# Altium schematic symbol library SN74LVC2G241DCUR.SchLib: 1 symbol
Pins are listed as number, name and electrical type; pins without a type are passive.

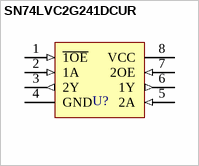
[diagram p0: symbol SN74LVC2G241DCUR]

## SN74LVC2G241DCUR
designator U?
Buffer, Non-Inverting 2 Element 1 Bit per Element 3-State Output 8-VSSOP; MP: SN74LVC2G241DCUR; MF: Texas Instruments; Price: None; Value: *; Package: VFSOP-8 Texas Instruments; SnapEDA_Link: https://www.snapeda.com/parts/SN74LVC2G241DCUR/Texas%20Instruments/view-part/278306/?ref=snap; Availability: Unavailable
footprint SOP50P310X90-8N
pins: 1 ~{1OE} (in), 2 1A (in), 3 2Y (out), 4 GND, 5 2A (in), 6 1Y (out), 7 2OE (in), 8 VCC (power)